# EAGLE library part RFPA5542BTR13 (library SamacSys_Parts)
RF Amplifier 5GHZ Discrete PA Source: Datasheet <https://www.mouser.pl/datasheet/2/412/RFPA5542 Data Sheet-1314453.pdf>
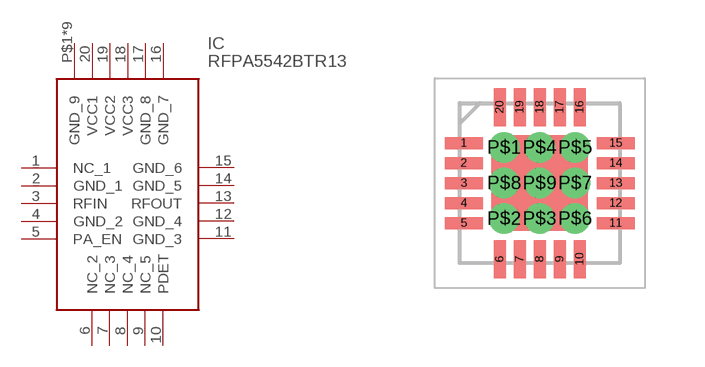
[diagram p0: symbol with the pads of QFN50P400X400X85-21N; footprint QFN50P400X400X85-21N]

Designator prefix IC

## RFPA5542BTR13 (DESCRIPTION: RF Amplifier 5GHZ Discrete PA; HEIGHT: 0.85mm; MANUFACTURER_NAME: Qorvo; MANUFACTURER_PART_NUMBER: RFPA5542BTR13; MOUSER_PART_NUMBER: 772-RFPA5542BTR13; MOUSER_PRICE-STOCK: https://www.mouser.co.uk/ProductDetail/Qorvo/RFPA5542BTR13?qs=u4fy%2FsgLU9OIcUWfOD%252Bf6g%3D%3D)  [QFN50P400X400X85-21N]
1  NC_1
2  GND_1
3  RFIN
4  GND_2
5  PA_EN
6  NC_2
7  NC_3
8  NC_4
9  NC_5
10  PDET
11  GND_3
12  GND_4
13  RFOUT
14  GND_5
15  GND_6
16  GND_7
17  GND_8
18  VCC3
19  VCC2
20  VCC1
P$1  GND_9
P$2  GND_9
P$3  GND_9
P$4  GND_9
P$5  GND_9
P$6  GND_9
P$7  GND_9
P$8  GND_9
P$9  GND_9

## RFPA5542BTR13QFN50P400X400X85-21N_THERMAL_VIAS  [QFN50P400X400X85-21N]

## Footprint QFN50P400X400X85-21N (pad centres in mm)
RFPA5542BTR13
smd 0.95 x 0.3: 1 -1.9,1; 2 -1.9,0.5; 3 -1.9,0; 4 -1.9,-0.5; 5 -1.9,-1; 11 1.9,-1; 12 1.9,-0.5; 13 1.9,0; 14 1.9,0.5; 15 1.9,1
smd 0.3 x 0.95: 6 -1,-1.9; 7 -0.5,-1.9; 8 0,-1.9; 9 0.5,-1.9; 10 1,-1.9; 16 1,1.9; 17 0.5,1.9; 18 0,1.9; 19 -0.5,1.9; 20 -1,1.9
drill 0.25 pad 0.254: P$1 -0.889,0.889; P$2 -0.889,-0.889; P$3 0,-0.889; P$4 0,0.889; P$5 0.889,0.889; P$6 0.889,-0.889; P$7 0.889,0; P$8 -0.889,0; P$9 0,0